# EAGLE library part ULN2003D1013TR (library ULN2003D1013TR)
ULN2003D1013TR, Darlington Transistor Array, NPN 0.5A 50V, Array 7 HFE:1000, 16-Pin, SO Source: Datasheet <http://www.st.com/st-web-ui/static/active/en/resource/technical/document/datasheet/CD00001244.pdf>
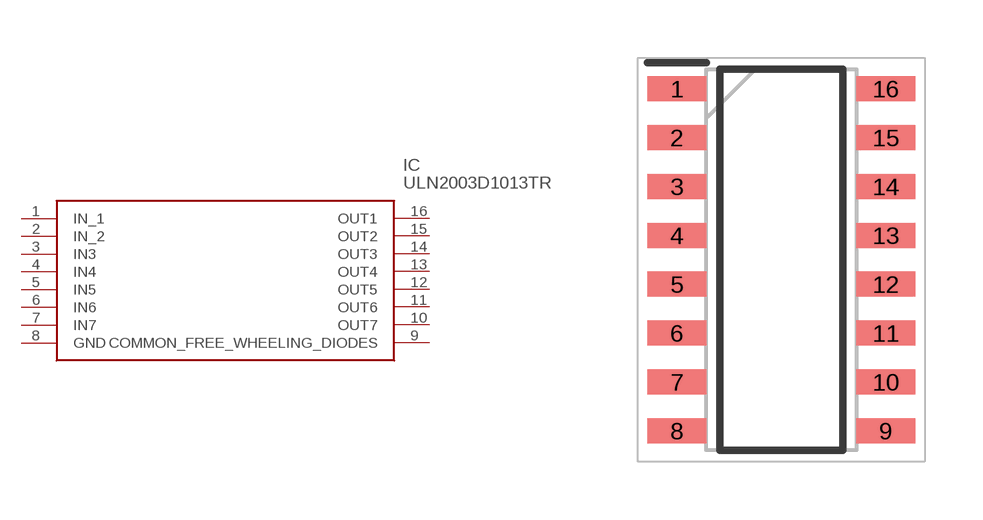
[diagram p0: symbol with the pads of SOIC127P600X175-16N; footprint SOIC127P600X175-16N]

Designator prefix IC

## ULN2003D1013TR (Description: ULN2003D1013TR, Darlington Transistor Array, NPN 0.5A 50V, Array 7 HFE:1000, 16-Pin, SO; Height: 1.75mm; Manufacturer_Name: STMicroelectronics; Manufacturer_Part_Number: ULN2003D1013TR; Mouser_Part_Number: 511-ULN2003D1013TR; Mouser_Price-Stock: https://www.mouser.co.uk/ProductDetail/STMicroelectronics/ULN2003D1013TR?qs=YnPipOpXm6FQ98RZGZk5Pg%3D%3D)  [SOIC127P600X175-16N]
1  IN_1
2  IN_2
3  IN3
4  IN4
5  IN5
6  IN6
7  IN7
8  GND
9  COMMON_FREE_WHEELING_DIODES
10  OUT7
11  OUT6
12  OUT5
13  OUT4
14  OUT3
15  OUT2
16  OUT1

## Footprint SOIC127P600X175-16N (pad centres in mm)
SO-16-1
smd 1.525 x 0.65: 1 -2.712,4.445; 2 -2.712,3.175; 3 -2.712,1.905; 4 -2.712,0.635; 5 -2.712,-0.635; 6 -2.712,-1.905; 7 -2.712,-3.175; 8 -2.712,-4.445; 9 2.712,-4.445; 10 2.712,-3.175; 11 2.712,-1.905; 12 2.712,-0.635; 13 2.712,0.635; 14 2.712,1.905; 15 2.712,3.175; 16 2.712,4.445